# Altium schematic symbol library BM70 Click SCH.SchLib: 34 symbols
Pins are listed as number, name and electrical type; pins without a type are passive.

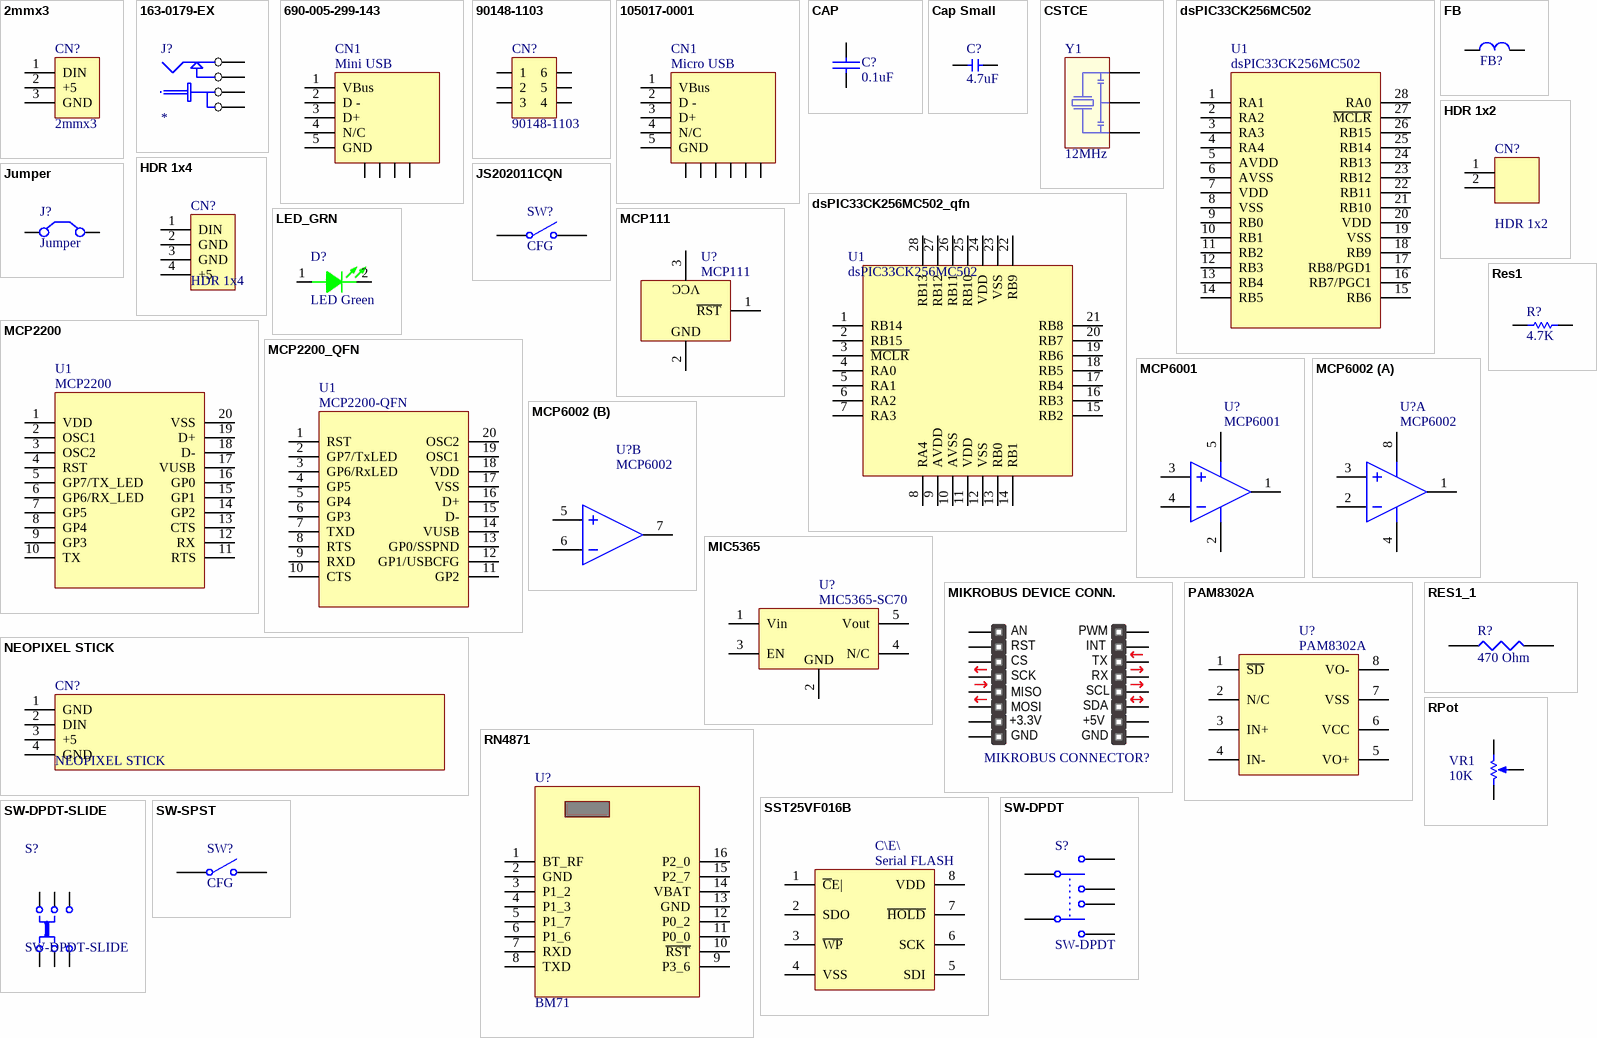
[diagram p0: symbols 2mmx3 to SW-SPST]

## 2mmx3
designator CN?
SMT pads for the Neo Pixel Stick; LatestRevisionDate: 17-Jul-2002; LatestRevisionNote: Re-released for DXP Platform.; Publisher: Altium Limited
footprint B3B-PH-K-S (Connector; Header; 3 Position, 1.25mm)
pins: 1 DIN, 2 +5, 3 GND

## 163-0179-EX
designator J?
footprint 163-0179-EX
pins: 1 A, 2 B, 3 C, 4 D

## 690-005-299-143
designator CN1, comment Mini USB
Manufacturer 1: MPD; Manufacturer Part Number 1: BK-883-TR; MCHP-ID: BAT1102; Value: CR2016, CR2020, CR2025, CR2032; Description_: BATT HOLDER Retainer SMD CR2016, CR2020, CR2025, CR2032; Populated: YES; Revision: 0; Status: Production; ComponentLink1URL: https://chn-vm-apps.microchip.com/mchprepo/parts/Datasheets/BK-883-datasheet.pdf; ComponentLink1Description: Datasheet; Type: Holder; Category: Battery; Supplier 1: Digi-Key; Supplier Part Number 1: BK-883CT-ND; Quantity Override: 1
footprint 690005299143
pins: 1 VBus, 2 D -, 3 D+, 4 N/C, 5 GND, 6, 7, 8, 9

## 90148-1103
designator CN?
Horizontal Socket, 3-Position; LatestRevisionDate: 17-Jul-2002; LatestRevisionNote: Re-released for DXP Platform.; Publisher: Altium Limited
footprint 90148-1103
pins: 1, 2, 3, 4, 5, 6

## 105017-0001
designator CN1, comment Micro USB
Micro USB B; Manufacturer 1: MPD; Manufacturer Part Number 1: BK-883-TR; MCHP-ID: BAT1102; Value: CR2016, CR2020, CR2025, CR2032; Description_: BATT HOLDER Retainer SMD CR2016, CR2020, CR2025, CR2032; Populated: YES; Revision: 0; Status: Production; ComponentLink1URL: https://chn-vm-apps.microchip.com/mchprepo/parts/Datasheets/BK-883-datasheet.pdf; ComponentLink1Description: Datasheet; Type: Holder; Category: Battery; Supplier 1: Digi-Key; Supplier Part Number 1: BK-883CT-ND; Quantity Override: 1
footprint Micro USB-Molex (105017-0001)
pins: 1 VBus, 2 D -, 3 D+, 4 N/C, 5 GND, 6, 7, 8, 9, 10, 11

## CAP
designator C?, comment 0.1uF
Capacitor
footprint 0603
pins: 1, 2

## Cap Small
designator C?, comment 4.7uF
Capacitor; Type: Ceramic; Revision: 0; ComponentLink1Description: Datasheet; Operating Temperature: -55C to +125C; Category: Capacitor; Quantity Override: 1
footprint 0603
pins: 1, 2

## CSTCE
designator Y1, comment 12MHz
Ceramic Resonator
footprint CSTCE
pins: 1, 2, 3

## dsPIC33CK256MC502
designator U1
16-bit MCU
footprint SSOP-28
pins: 1 RA1, 2 RA2, 3 RA3, 4 RA4, 5 AVDD, 6 AVSS, 7 VDD, 8 VSS, 9 RB0, 10 RB1, 11 RB2, 12 RB3, 13 RB4, 14 RB5, 15 RB6, 16 RB7/PGC1, 17 RB8/PGD1, 18 RB9, 19 VSS, 20 VDD, 21 RB10, 22 RB11, 23 RB12, 24 RB13, 25 RB14, 26 RB15, 27 ~{MCLR}, 28 RA0

## dsPIC33CK256MC502_qfn
designator U1, comment dsPIC33CK256MC502
16-bit MCU
footprint SSOP-20
pins: 1 RB14, 2 RB15, 3 ~{MCLR}, 4 RA0, 5 RA1, 6 RA2, 7 RA3, 8 RA4, 9 AVDD, 10 AVSS, 11 VDD, 12 VSS, 13 RB0, 14 RB1, 15 RB2, 16 RB3, 17 RB4, 18 RB5, 19 RB6, 20 RB7, 21 RB8, 22 RB9, 23 VSS, 24 VDD, 25 RB10, 26 RB11, 27 RB12, 28 RB13

## FB
designator FB?  (value not drawn)
Ferrite Bead; Manufacturer 1: TDK; Manufacturer Part Number 1: FLF3215T-4R7M; MCHP-ID: IND0071; Description_: INDUCTOR 4.7uH 1A 20% SMD 1210; Type: Inductor; DCR: 0.09R; Saturation Current: 1A; Test Frequency: 1MHz; Populated: Yes; Revision: 1; Status: Production; ComponentLink1URL: https://chn-vm-apps.microchip.com/mchprepo/parts/Datasheets/e531_flf3215.pdf; ComponentLink1Description: Datasheet; Operating Temperature: -40C to +125C; Package: 1210; Category: Inductor; Supplier 1: Digi-Key; Supplier Part Number 1: 445-4846-2-ND; Quantity Override: 1
footprint 0603
footprint 0805
pins: 1, 2

## HDR 1x2
designator CN?
SMT pads for the Neo Pixel Stick; LatestRevisionDate: 17-Jul-2002; LatestRevisionNote: Re-released for DXP Platform.; Publisher: Altium Limited
footprint HDR1X2
pins: 1, 2

## HDR 1x4
designator CN?
SMT pads for the Neo Pixel Stick; LatestRevisionDate: 17-Jul-2002; LatestRevisionNote: Re-released for DXP Platform.; Publisher: Altium Limited
pins: 1 DIN, 2 GND, 3 GND, 4 +5

## JS202011CQN
designator SW?, comment CFG
Single-Pole, Single-Throw Switch; Published: 24-Mar-1999; LatestRevisionDate: 17-Jul-2002; LatestRevisionNote: Re-released for DXP Platform.; PackageReference: SPST-2; Publisher: Altium Limited; PackageDescription: Switch; 2 Leads
footprint JS202011CQN
pins: 1 NO, 2 COMMON

## Jumper
designator J?
Jumper Wire; Published: 24-Mar-1999; LatestRevisionDate: 17-Jul-2002; LatestRevisionNote: Re-released for DXP Platform.; PackageReference: RAD-0.2; Publisher: Altium Limited; PackageDescription: Radial Cap, Thru-Hole; 2 Leads; 0.2 in Pin Spacing
footprint HDR1X2
footprint 0603
pins: 1 C1, 2 C2

## LED_GRN
designator D?, comment LED Green
Green LED; Manufacturer 1: Lumex; Manufacturer Part Number 1: SML-LXT0805IW-TR; MCHP-ID: LED1020; Description_: DIO LED RED 2V 30mA 0805; Type: LED Single; Forward Current: 30mA; Power: 50mW; Reverse Current: 100uA; Reverse Voltage: 5V; Owner: Stephen Humberd; Populated: YES; Value: GRN; Revision: A; Status: Design; Package: 0805; ComponentLink1URL: https://chn-vm-apps.microchip.com/mchprepo/parts/Datasheets/SML-LXT0805IW-TR.pdf; ComponentLink1Description: Datasheet; Operating Temperature: -25C to +80C; Category: Diode; Supplier 1: Digi-Key; Supplier Part Number 1: 67-1552-1-ND; Quantity Override: 1
footprint LTST-C190
pins: 1 A, 2 K

## MCP111
designator U?
Voltage Detector; Published: 24-Mar-1999; LatestRevisionDate: 29-May-2009; LatestRevisionNote: IPC-7351 Footprint Added.; PackageReference: D2PAK; Publisher: Altium Limited; PackageDescription: 3-Pin Transistor Outline Package 2.54 mm Pitch, 15.1 mm Lead Span
footprint SOT-23
pins: 1 ~{RST}, 2 GND, 3 Vcc
text: VCC

## MCP2200
designator U1
16-bit MCU
footprint SSOP-20
pins: 1 VDD, 2 OSC1, 3 OSC2, 4 RST, 5 GP7/TX_LED, 6 GP6/RX_LED, 7 GP5, 8 GP4, 9 GP3, 10 TX, 11 RTS, 12 RX, 13 CTS, 14 GP2, 15 GP1, 16 GP0, 17 VUSB, 18 D-, 19 D+, 20 VSS

## MCP2200_QFN
designator U1, comment MCP2200-QFN
16-bit MCU
footprint SSOP-20
pins: 1 RST, 2 GP7/TxLED, 3 GP6/RxLED, 4 GP5, 5 GP4, 6 GP3, 7 TXD, 8 RTS, 9 RXD, 10 CTS, 11 GP2, 12 GP1/USBCFG, 13 GP0/SSPND, 14 VUSB, 15 D-, 16 D+, 17 VSS, 18 VDD, 19 OSC1, 20 OSC2

## MCP6001
designator U?
Published: 8-Jun-2000; LatestRevisionDate: 17-Jul-2002; LatestRevisionNote: Re-released for DXP Platform.; DatasheetVersion: REV. B; PackageVersion: 1990; PackageReference: H-08A; Publisher: Altium Limited; PackageDescription: Can; 8 Leads; Pin Circle Dia. 5.08 mm; Lead Dia. 0.53 mm (max); ComponentLink1Description: Manufacturer Link; ComponentLink1URL: http://www.analog.com/
footprint TSOP-5 (Small Outline; 6 Leads (1 Absent); Body Width 4.4 mm; Pitch 1.27 mm)
pins: 1 OUT, 2 VSS (power), 3 IN+, 4 IN-, 5 VCC (power)

## MCP6002
designator U?
Published: 8-Jun-2000; LatestRevisionDate: 17-Jul-2002; LatestRevisionNote: Re-released for DXP Platform.; DatasheetVersion: REV. B; PackageVersion: 1990; PackageReference: H-08A; Publisher: Altium Limited; PackageDescription: Can; 8 Leads; Pin Circle Dia. 5.08 mm; Lead Dia. 0.53 mm (max); ComponentLink1Description: Manufacturer Link; ComponentLink1URL: http://www.analog.com/
footprint MSOP-8
footprint SOIC-8
part A pins: 1 OUT, 2 IN-, 3 IN+, 4 VSS (power), 8 VCC (power)
part B pins: 5 IN+, 6 IN-, 7 OUT

## MIC5365
designator U?, comment MIC5365-SC70
Voltage Detector; Published: 24-Mar-1999; LatestRevisionDate: 29-May-2009; LatestRevisionNote: IPC-7351 Footprint Added.; PackageReference: D2PAK; Publisher: Altium Limited; PackageDescription: 3-Pin Transistor Outline Package 2.54 mm Pitch, 15.1 mm Lead Span
footprint SC70-5
pins: 1 Vin, 2 GND, 3 EN, 4 N/C, 5 Vout

## MIKROBUS DEVICE CONN.
designator MIKROBUS CONNECTOR?  (value not drawn)
mikroBUS Target Header
footprint MIKRO_BUS_LARGE
footprint MIKRO_BUS_MINI
footprint MIKRO_BUS_MIDI
footprint MIKRO_BUS_WS2812
pins: 1 AN, 2 RST, 3 CS, 4 SCK, 5 MISO, 6 MOSI, 7 3.3V, 8 GND, 9 GND, 10 5V, 11 SDA, 12 SCL, 13 TX, 14 RX, 15 INT, 16 PWM
2 alternate drawings of the same symbol
text: +3.3V; +5V

## MikroBusLogo
designator ?
Logo; Published: 8-Jun-2000; LatestRevisionDate: 17-Jul-2002; LatestRevisionNote: Re-released for DXP Platform.; PackageReference: AXIAL-0.3; Publisher: Altium Limited; PackageDescription: Axial Device, Thru-Hole; 2 Leads; 0.3 in Pin Spacing
footprint MBus_Small
footprint MB_Large

## NEOPIXEL STICK
designator CN?
SMT pads for the Neo Pixel Stick; LatestRevisionDate: 17-Jul-2002; LatestRevisionNote: Re-released for DXP Platform.; Publisher: Altium Limited
footprint NeoPixel Stick SMT TOP (NeoPixel Stick with 8 LED's)
pins: 1 GND, 2 DIN, 3 +5, 4 GND

## PAM8302A
designator U?
Class D Amplifier; Published: 24-Mar-1999; LatestRevisionDate: 29-May-2009; LatestRevisionNote: IPC-7351 Footprint Added.; PackageReference: D2PAK; Publisher: Altium Limited; PackageDescription: 3-Pin Transistor Outline Package 2.54 mm Pitch, 15.1 mm Lead Span
footprint MSOP-8
pins: 1 ~{SD}, 2 N/C, 3 IN+, 4 IN-, 5 VO+, 6 VCC, 7 VSS, 8 VO-

## Res1
designator R?, comment 4.7K
Resistor; Published: 8-Jun-2000; LatestRevisionDate: 17-Jul-2002; LatestRevisionNote: Re-released for DXP Platform.; PackageReference: AXIAL-0.3; Publisher: Altium Limited; PackageDescription: Axial Device, Thru-Hole; 2 Leads; 0.3 in Pin Spacing
footprint 0603
pins: 1, 2

## RES1_1
designator R?, comment 470 Ohm
footprint 0603
pins: 1, 2

## RN4871
designator U?, comment BM71
BLE Module; Published: 24-Mar-1999; LatestRevisionDate: 17-Jul-2002; LatestRevisionNote: Re-released for DXP Platform.; PackageReference: TSOP-5; Publisher: Altium Limited; PackageDescription: Bridge Rectifier; 4 Terminals; Body 16.8 x 16.8 mm (typ); Pitch 10.67 mm
footprint RN4871
pins: 1 BT_RF, 2 GND, 3 P1_2, 4 P1_3, 5 P1_7, 6 P1_6, 7 RXD, 8 TXD, 9 P3_6, 10 ~{RST}, 11 P0_0, 12 P0_2, 13 GND, 14 VBAT, 15 P2_7, 16 P2_0

## RPot
designator VR1, comment 10K
Potentiometer; Sim Note: Enter the Resistance value and the set point into parameter fields.; Set Position: 0.5; Value: 1K; Published: 8-Jun-2000; LatestRevisionDate: 17-Jul-2002; LatestRevisionNote: Re-released for DXP Platform.; PackageReference: VR5; Publisher: Altium Limited; PackageDescription: Variable Resistor, Thru-Hole; 3 Leads
footprint PVG3A (3mm Trim Pot)
pins: 1 TOP, 2 BOT, 3 TAP
1 alternate drawing of the same symbol

## SST25VF016B
designator C\E\, comment Serial FLASH
Published: 24-Mar-1999; LatestRevisionDate: 29-May-2009; LatestRevisionNote: IPC-7351 Footprint Added.; PackageReference: D2PAK; Publisher: Altium Limited; PackageDescription: 3-Pin Transistor Outline Package 2.54 mm Pitch, 15.1 mm Lead Span
footprint MSOP-8
pins: 1 ~{C}E|, 2 SDO, 3 ~{WP}, 4 VSS, 5 SDI, 6 SCK, 7 ~{HOLD}, 8 VDD

## SW-DPDT
designator S?
Double-Pole, Double-Throw Switch; Published: 24-Mar-1999; LatestRevisionDate: 17-Jul-2002; LatestRevisionNote: Re-released for DXP Platform.; PackageReference: DPDT-6; Publisher: Altium Limited; PackageDescription: Switch; 6 Leads
footprint DPDT-6 (Switch; 6 Leads)
pins: 1, 2, 3, 4, 5, 6

## SW-DPDT-SLIDE
designator S?
Double-Pole, Double-Throw Slide Switch; Published: 24-Mar-1999; LatestRevisionDate: 17-Jul-2002; LatestRevisionNote: Re-released for DXP Platform.; PackageReference: DPDT-6; Publisher: Altium Limited; PackageDescription: Switch; 6 Leads
footprint JS202011CQN
pins: 1, 2, 3, 4, 5, 6

## SW-SPST
designator SW?, comment CFG
Single-Pole, Single-Throw Switch; Published: 24-Mar-1999; LatestRevisionDate: 17-Jul-2002; LatestRevisionNote: Re-released for DXP Platform.; PackageReference: SPST-2; Publisher: Altium Limited; PackageDescription: Switch; 2 Leads
footprint CTS-223AM
pins: 1 NO, 3 COMMON